# Altium footprint library MergenElektronik_Connectors_Headers.PcbLib: 2 footprints
Each footprint in its own frame and in the unit in brackets; x right, y up, seen from the top. Pads: shape width x height; smd on the part's side, far side on the other; paste and mask are expansions set on the pad; w line width, h text height; cw(c..) or ccw(c..) is an arc to the next point about the centre after c.
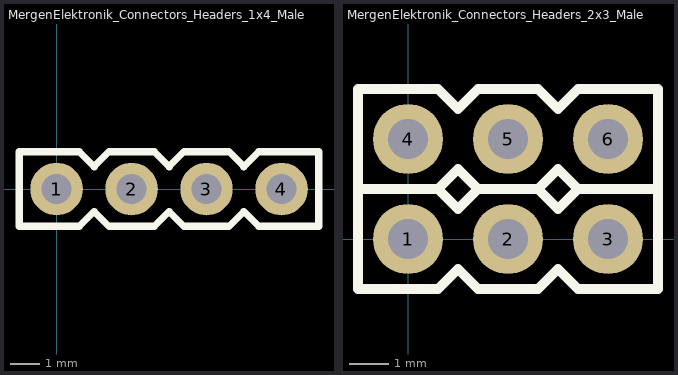
[diagram p0: the footprints below, top view; thin cyan lines are the x and y axes]

## MergenElektronik_Connectors_Headers_1x4_Male [mil] "1x4 Male"
pads (4):
  round 70 hole 40: 1(0,0) 2(100,0) 3(200,0) 4(300,0)
Top Overlay:
  lines w10: -50,-50 -50,0 -50,50 30,50 50,30 70,50 130,50 150,30 170,50 230,50 250,30 270,50 350,50 350,-50 270,-50 250,-30 230,-50 170,-50 150,-30 130,-50 70,-50 50,-30 30,-50 -50,-50
3D body: height 414.96, standoff -118.11, extent -50.1,-50 350.1,48.43

## MergenElektronik_Connectors_Headers_2x3_Male [mil] "2x3 Male"
pads (6):
  round 70 hole 40: 1(0,0) 2(100,0) 3(200,0) 4(0,100) 5(100,100) 6(200,100)
Top Overlay:
  lines w10: -50,50 30,50 ; -50,50 -50,150 30,150 50,130 70,150 130,150 150,130 170,150 250,150 250,50 ; -50,50 -50,0 -50,-50 30,-50 50,-30 70,-50 130,-50 150,-30 170,-50 230,-50 250,-50 250,50 ; 30,50 50,30 70,50 ; 30,50 50,70 70,50 ; 70,50 130,50 ; 130,50 150,30 170,50 ; 130,50 150,70 170,50 ; 170,50 250,50
3D body: height 414.96, standoff -118.11, extent -50.1,-50 250.1,48.43
3D body: height 414.96, standoff -118.11, extent -50.1,50 250.1,148.43